# EAGLE library part IC_TD62783 (library dp_devices)
8 Channel High voltage Source driver Mfr no: TD62783 TD62783AFG <http://www.digikey.com/product-detail/en/TD62783AFG%28O,S%29/TD62783AFG%28OS%29-ND/871116>
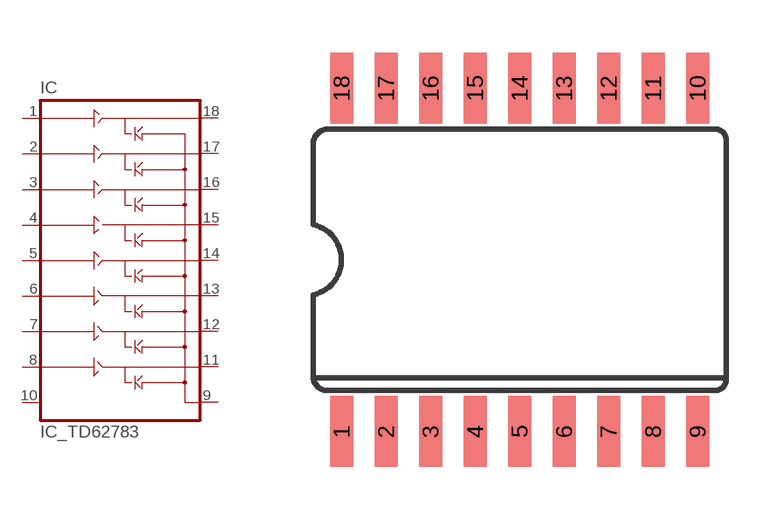
[diagram p117: symbol with the pads of SO-18L; footprint SO-18L]

Designator prefix IC

## IC_TD62783-SO-18W  [SO-18L]
1  IN1  in
2  IN2  in
3  IN3  in
4  IN4  in
5  IN5  in
6  IN6  in
7  IN7  in
8  IN8  in
9  GND  pwr
10  VS  pwr
11  OUT8  out
12  OUT7  out
13  OUT6  out
14  OUT5  out
15  OUT4  out
16  OUT3  out
17  OUT2  out
18  OUT1  out

## Footprint SO-18L (pad centres in mm)
smd 0.66 x 2.032: 1 -4.445,-4.902; 2 -3.175,-4.902; 3 -1.905,-4.902; 4 -0.635,-4.902; 5 0.635,-4.902; 6 1.905,-4.902; 7 3.175,-4.902; 8 4.445,-4.902; 9 5.715,-4.902; 10 5.715,4.902; 11 4.445,4.902; 12 3.175,4.902; 13 1.905,4.902; 14 0.635,4.902; 15 -0.635,4.902; 16 -1.905,4.902; 17 -3.175,4.902; 18 -4.445,4.902